# Altium footprint library SS1P3L-M384A.PcbLib: 3 footprints
Each footprint in its own frame and in the unit in brackets; x right, y up, seen from the top. Pads: shape width x height; smd on the part's side, far side on the other; paste and mask are expansions set on the pad; w line width, h text height; cw(c..) or ccw(c..) is an arc to the next point about the centre after c.
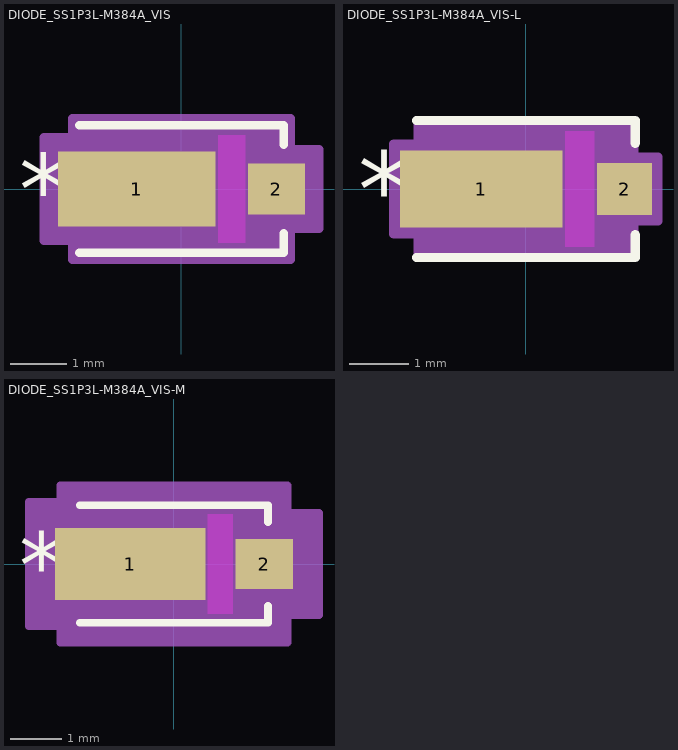
[diagram p0: the footprints below, top view; thin cyan lines are the x and y axes]

## DIODE_SS1P3L-M384A_VIS [mil]
pads (2):
  rect 111x53 smd paste+0 mask+0: 1(-31.5,0)
  rect 40x36 smd paste+0 mask+0: 2(67,0)
Top Layer keep-out:
  region: 26,-38 26,38 45,38 45,-38
Top Overlay:
  lines w6: -72,-45 72,-45 72,-31.1 ; -72,45 72,45 72,31.1
  text "*" at -114.5,-25 h50
Keep-Out Layer:
  region: 26,-38 26,38 45,38 45,-38
Mechanical 13:
  lines w1: -67,-20 -47,-40 ; -67,20 -47,40 ; -79,-26.5 -79,26.5 -67,26.5 -67,-26.5 -79,-26.5 ; -67,-40 67,-40 67,40 -67,40 -67,-40 ; 67,-18 67,18 79,18 79,-18 67,-18
  text "*" at -69.5,-25 h50
Mechanical 15:
  region: -77,-36.5 -97,-36.5 -97,36.5 -77,36.5 -77,50 77,50 77,28 97,28 97,-28 77,-28 77,-50 -77,-50
  lines w6: -97,-36.5 -97,36.5 -77,36.5 -77,50 77,50 77,28 97,28 97,-28 77,-28 77,-50 -77,-50 -77,-36.5 -97,-36.5
3D body "DIODE_SS1P3L-M384A_VIS.step": height 45.12, standoff 0, extent -79.02,-40 79.02,40

## DIODE_SS1P3L-M384A_VIS-L [mil]
pads (2):
  rect 107x51 smd paste+0 mask+0: 1(-29.5,0)
  rect 36x34 smd paste+0 mask+0: 2(65,0)
Top Layer keep-out:
  region: 26,-38 26,38 45,38 45,-38
Top Overlay:
  lines w6: -72,-45 72,-45 72,-30.1 ; -72,45 72,45 72,30.1
  text "*" at -110.5,-25 h50
Keep-Out Layer:
  region: 26,-38 26,38 45,38 45,-38
Mechanical 13:
  lines w1: -67,-20 -47,-40 ; -67,20 -47,40 ; -79,-26.5 -79,26.5 -67,26.5 -67,-26.5 -79,-26.5 ; -67,-40 67,-40 67,40 -67,40 -67,-40 ; 67,-18 67,18 79,18 79,-18 67,-18
  text "*" at -69.5,-25 h50
Mechanical 15:
  region: -71,-29.5 -87,-29.5 -87,29.5 -71,29.5 -71,44 71,44 71,21 87,21 87,-21 71,-21 71,-44 -71,-44
  lines w6: -87,-29.5 -87,29.5 -71,29.5 -71,44 71,44 71,21 87,21 87,-21 71,-21 71,-44 -71,-44 -71,-29.5 -87,-29.5
3D body "DIODE_SS1P3L-M384A_VIS.step": height 45.12, standoff 0, extent -79.02,-40 79.02,40

## DIODE_SS1P3L-M384A_VIS-M [mil]
pads (2):
  rect 115x55 smd paste+0 mask+0: 1(-33.5,0)
  rect 44x38 smd paste+0 mask+0: 2(69,0)
Top Layer keep-out:
  region: 26,-38 26,38 45,38 45,-38
Top Overlay:
  lines w6: -72,-45 72,-45 72,-32.1 ; -72,45 72,45 72,32.1
  text "*" at -118.5,-25 h50
Keep-Out Layer:
  region: 26,-38 26,38 45,38 45,-38
Mechanical 13:
  lines w1: -67,-20 -47,-40 ; -67,20 -47,40 ; -79,-26.5 -79,26.5 -67,26.5 -67,-26.5 -79,-26.5 ; -67,-40 67,-40 67,40 -67,40 -67,-40 ; 67,-18 67,18 79,18 79,-18 67,-18
  text "*" at -69.5,-25 h50
Mechanical 15:
  region: -87,-47.5 -111,-47.5 -111,47.5 -87,47.5 -87,60 87,60 87,39 111,39 111,-39 87,-39 87,-60 -87,-60
  lines w6: -111,-47.5 -111,47.5 -87,47.5 -87,60 87,60 87,39 111,39 111,-39 87,-39 87,-60 -87,-60 -87,-47.5 -111,-47.5
3D body "DIODE_SS1P3L-M384A_VIS.step": height 45.12, standoff 0, extent -79.02,-40 79.02,40